# Altium schematic symbol library Custom library.SchLib: 52 symbols
Pins are listed as number, name and electrical type; pins without a type are passive.

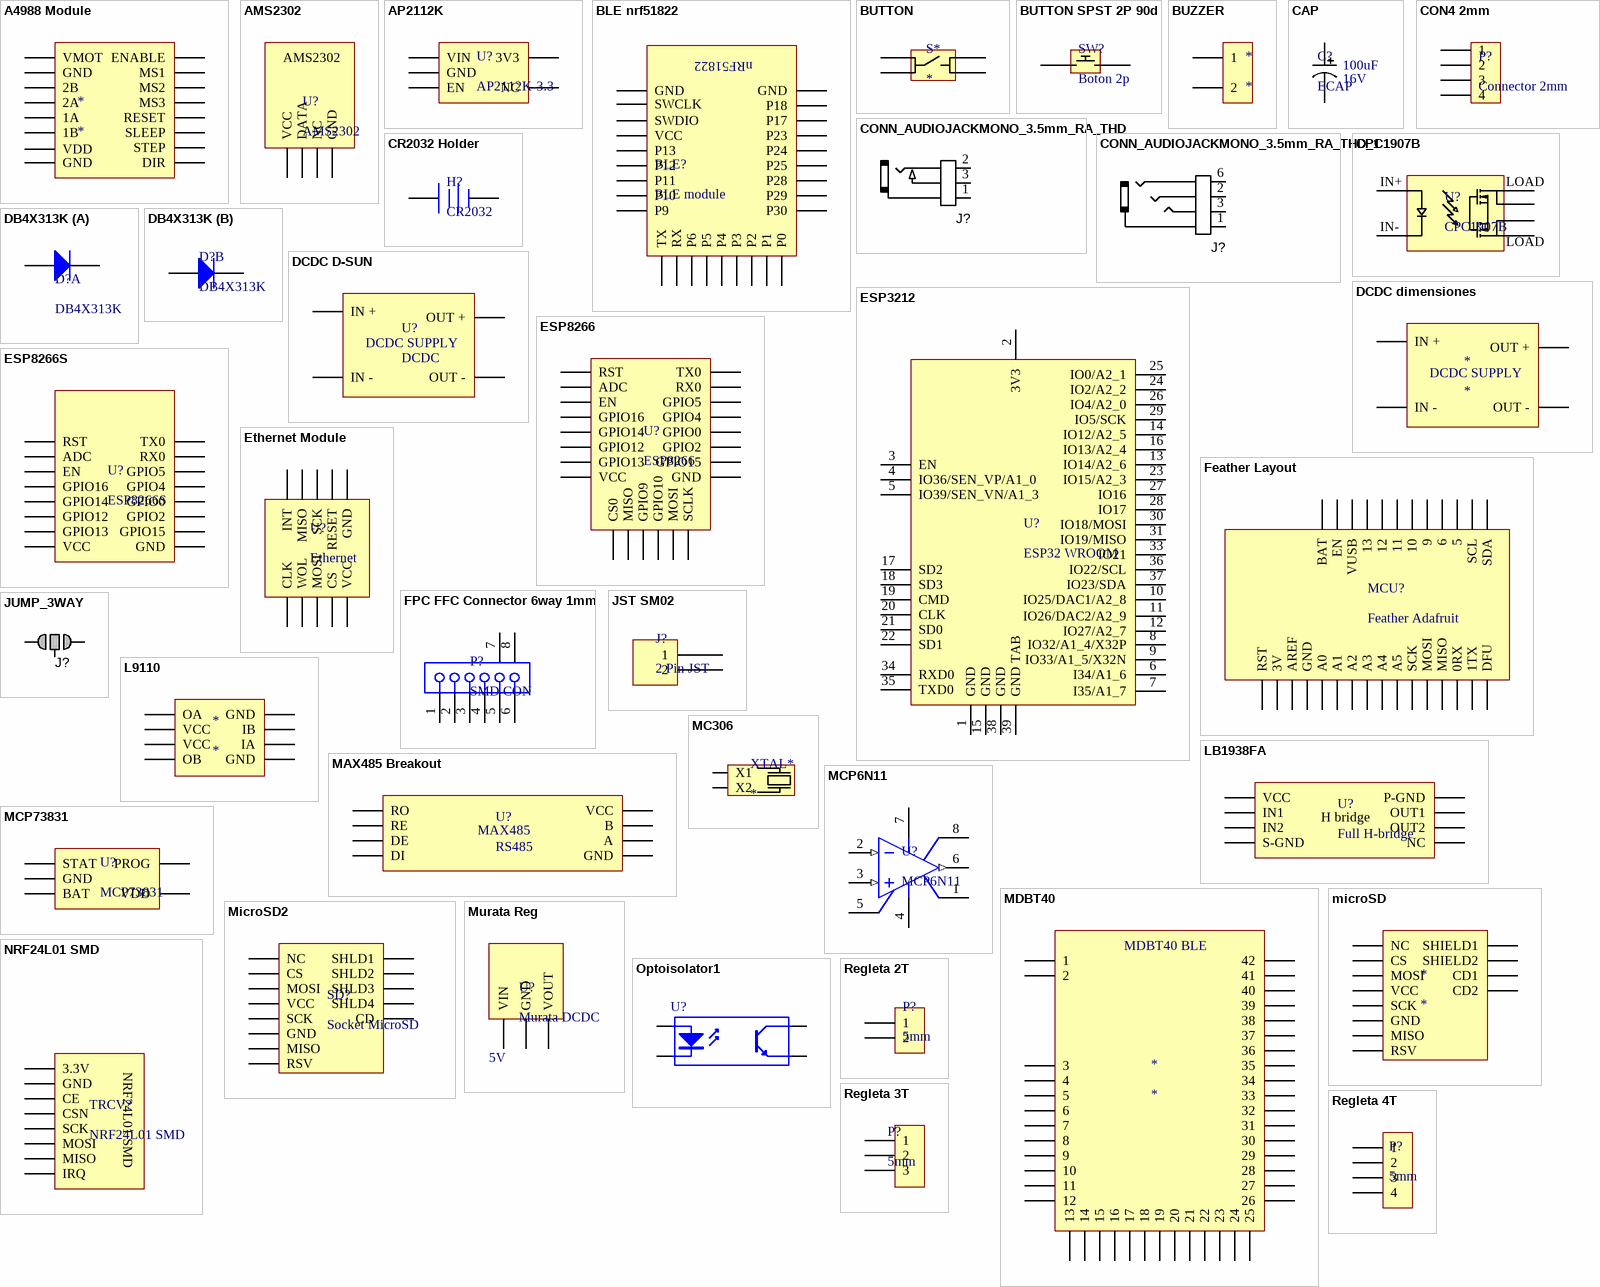
[diagram p0: symbols A4988 Module to Regleta 4T]

## A4988 Module
designator *
footprint A4988 Stepper Driver Module (Stepper Driver)
pins: 1 VMOT, 2 GND, 3 2B, 4 2A, 5 1A, 6 1B, 7 VDD, 8 GND, 9 ENABLE, 10 MS1, 11 MS2, 12 MS3, 13 RESET, 14 SLEEP, 15 STEP, 16 DIR

## AMS2302
designator U?
Temperature and humidity sensor
footprint AMS2302 (DHT22 Module)
pins: 1 VCC, 2 DATA, 3 NC, 4 GND

## AP2112K
designator U?, comment AP2112K-3.3
3V3 LDO Regulator
footprint DBV005 (SOT-23/SC-74A; 5 Leads; Body 3 x 3 mm, inc. leads (LxW max))
pins: 1 VIN, 2 GND, 3 EN, 4 NC, 5 3V3

## BLE nrf51822
designator BLE?, comment BLE module
BLE nRF51822
footprint BLE nrf51822 (modulo BLE)
pins: 1 GND, 2 SWCLK, 3 SWDIO, 4 VCC, 5 P13, 6 P12, 7 P11, 8 P10, 9 P9, 10 TX, 11 RX, 12 P6, 13 P5, 14 P4, 15 P3, 16 P2, 17 P1, 18 P0, 19 P30, 20 P29, 21 P28, 22 P25, 23 P24, 24 P23, 25 P17, 26 P18, 27 GND
text: nRF51822

## BUTTON
designator S*
footprint BUTTON
footprint BUTTON SMD MICRO
pins: 0, 1, 2, 3

## BUTTON SPST 2P 90d
designator SW?, comment Boton 2p
footprint BUTTON SPST 90 (Boton 4.3mm 90 degrees)
footprint BUTTON SPST TH (Boton 4.3mm straight)
footprint BUTTON SPST 90 SMD (Boton 4.3mm 90 degrees no holes)
footprint BUTTON SPST SMD (Boton 4.3mm straight)
pins: 0, 1

## BUZZER
designator *
footprint BUZZER 12mm (Buzzer 5v)
footprint BUZZER 9mm (Buzzer 5v)
pins: 1, 2

## CAP
designator C?, comment ECAP  Capacitance: 100uF  Votage: 16V
Condensador electrolitico standart
footprint CAP6522 (Standart electrolitic capasitor)
footprint CAP 4x8 (ECAP P2)
footprint CAP 5x11 (ECAP P2)
footprint CAP 8x12 (ECAP P3)
footprint CAP SIZE D8
pins: 1, 2

## CON4 2mm
designator P?, comment Connector 2mm
footprint CON4 2mm (Conector 2mm 4p)
footprint JST PUD 2mm 4p (Connector)
pins: 1, 2, 3, 4

## CONN_AUDIOJACKMONO_3.5mm_RA_THD
designator J?, comment Mono phone jack  (value not drawn)
3.5mm Audio jack - Mono; Manufacturer 1: CUI Inc; Manufacturer Part Number 1: MJ-3502; Ratings: 1A; 12VDC; SCDType: undef; Material: Plastic, brass, silver; Package / Case: right-angle THD; Supplier 1: Digi-Key; Supplier Part Number 1: CP-3502MJ-ND
footprint CONN_AudioJackMono (CUI MJ-3502 3.5mm audio jack - mono)
footprint CONN_AUDIO_JACK 3.5mm (RS FC68125)
pins: 1 Base, 2 TIP, 3 Middle

## CONN_AUDIOJACKMONO_3.5mm_RA_THD_1
designator J?, comment Stereo phone jack  (value not drawn)
3.5mm Audio jack - Mono; Manufacturer 1: CUI Inc; Manufacturer Part Number 1: MJ-3502; Ratings: 1A; 12VDC; SCDType: undef; Material: Plastic, brass, silver; Package / Case: right-angle THD; Supplier 1: Digi-Key; Supplier Part Number 1: CP-3502MJ-ND
footprint CONN_AUDIO_JACK 3.5mm (RS FC68125)
footprint CONN_AUDIO_JACK 3.5mm smd (generico)
pins: 1 Base, 2, 3, 6

## CPC1907B
designator U?
Solid State Relay
footprint 8PIN POWER SOIC (8-pin Power Soic)
pins: 2 IN+, 3 IN-, 5, 6, 7, 8
text: LOAD

## CR2032 Holder
designator H?, comment CR2032
Coin Cell Holder
footprint BA2032SM (Coin Cell Holder CR2032)
footprint S8411-45R (CR1220 Batery Holder)
pins: 1 +, 2 -

## DB4X313K
designator D?
Dual Rect Diode
footprint SOT143 (SOT144 - Mini4-G4-B)
part A pins: 1 A, 4 K
part B pins: 2 A, 3 K

## DCDC D-SUN
designator U?, comment DCDC
footprint DCDC D-SUN (Regulator)
pins: 1 IN +, 2 IN -, 3 OUT -, 4 OUT +
text: DCDC SUPPLY

## DCDC dimensiones
designator *
footprint DCDC (Regulador ajustable DCDC)
pins: 1 IN +, 2 IN -, 3 OUT +, 4 OUT -
text: DCDC SUPPLY

## ESP3212
designator U?, comment ESP32 WROOM
WiFi SoC
footprint ESP32 WROOM (ESP WROOM32)
pins: 1 GND, 2 3V3, 3 EN, 4 IO36/SEN_VP/A1_0, 5 IO39/SEN_VN/A1_3, 6 I34/A1_6, 7 I35/A1_7, 8 IO32/A1_4/X32P, 9 IO33/A1_5/X32N, 10 IO25/DAC1/A2_8, 11 IO26/DAC2/A2_9, 12 IO27/A2_7, 13 IO14/A2_6, 14 IO12/A2_5, 15 GND, 16 IO13/A2_4, 17 SD2, 18 SD3, 19 CMD, 20 CLK, 21 SD0, 22 SD1, 23 IO15/A2_3, 24 IO2/A2_2, 25 IO0/A2_1, 26 IO4/A2_0, 27 IO16, 28 IO17, 29 IO5/SCK, 30 IO18/MOSI, 31 IO19/MISO, 33 IO21, 34 RXD0, 35 TXD0, 36 IO22/SCL, 37 IO23/SDA, 38 GND, 39 GND TAB

## ESP8266
designator U?
footprint ESP8266 (Modulo wifi Adafruit)
pins: 1 RST, 2 ADC, 3 EN, 4 GPIO16, 5 GPIO14, 6 GPIO12, 7 GPIO13, 8 VCC, 9 CS0, 10 MISO, 11 GPIO9, 12 GPIO10, 13 MOSI, 14 SCLK, 15 GND, 16 GPIO15, 17 GPIO2, 18 GPIO0, 19 GPIO4, 20 GPIO5, 21 RX0, 22 TX0

## ESP8266S
designator U?
ESP12S
footprint ESP8266S (Modulo wifi Adafruit version S)
pins: 1 RST, 2 ADC, 3 EN, 4 GPIO16, 5 GPIO14, 6 GPIO12, 7 GPIO13, 8 VCC, 15 GND, 16 GPIO15, 17 GPIO2, 18 GPIO0, 19 GPIO4, 20 GPIO5, 21 RX0, 22 TX0

## Ethernet Module
designator U?, comment Ethernet
footprint Ethernet Module (Microchip ENC28J60)
pins: 1 CLK, 2 INT, 3 WOL, 4 MISO, 5 MOSI, 6 SCK, 7 CS, 8 RESET, 9 VCC, 10 GND

## Feather Layout
designator MCU?, comment Feather Adafruit
footprint Feather Layout (Feather standart format)
footprint Feather Layout no holes (Feather standart format without holes)
pins: 1 RST, 2 3V, 3 AREF, 4 GND, 5 A0, 6 A1, 7 A2, 8 A3, 9 A4, 10 A5, 11 SCK, 12 MOSI, 13 MISO, 14 0RX, 15 1TX, 16 DFU, 17 SDA, 18 SCL, 19 5, 20 6, 21 9, 22 10, 23 11, 24 12, 25 13, 26 VUSB, 27 EN, 28 BAT

## FPC FFC Connector 6way 1mm
designator P?, comment SMD CON
FPC FFC Connector 1mm 6way
footprint Conector FPC FFC 6w 1mm (Conector chino)
pins: 1, 2, 3, 4, 5, 6, 7 MH1, 8 MH2

## JST SM02
designator J?, comment 2 Pin JST
JST SM02B
footprint JST SM02B-PASS-TB (JST PA Series 2mm pitch, side entry connector)
footprint JST BM02B-PASS-TF (JST PA Series 2mm pitch, top entry connector)
pins: 1, 2

## JUMP_3WAY
designator J?, comment Jumper  (value not drawn)  (no BOM)
SMD jumper
footprint Jump_3Way (SMT Battery jumper pads)
footprint Jump_3Way_Text1 (SMT jumper for fixed or variable)
pins: 1, 2, 3

## L9110
designator *
footprint S-DIP-8 (DIP; 8 Trim Leads; Row Spacing 7.62 mm; Pitch 2.54 mm)
pins: 1 OA, 2 VCC, 3 VCC, 4 OB, 5 GND, 6 IA, 7 IB, 8 GND

## LB1938FA
designator U?, comment Full H-bridge
Full H-bridge low power
footprint MSOP8
pins: 1 VCC, 2 IN1, 3 IN2, 4 S-GND, 5 NC, 6 OUT2, 7 OUT1, 8 P-GND
text: H bridge

## MAX485 Breakout
designator U?, comment RS485
footprint MAX485 PCB (Breakout Board MAX485)
pins: 0 RO, 1 RE, 2 DE, 3 DI, 4 VCC, 5 B, 6 A, 7 GND
text: MAX485

## MC306
designator XTAL*
footprint MC306 (SMD Crystal)
pins: 1 X1, 4 X2

## MCP6N11
designator U?
Op Amp
footprint SOIC8
pins: 1 OS NUL, 2 IN- (in), 3 IN+ (in), 4 V- (power), 5 OS NUL, 6 OUT (out), 7 V+ (power), 8 TAB

## MCP73831
designator U?
Li-ion Battery charger
footprint DBV005 (SOT-23/SC-74A; 5 Leads; Body 3 x 3 mm, inc. leads (LxW max))
pins: 1 STAT, 2 GND, 3 BAT, 4 VDD, 5 PROG

## MDBT40
designator *
footprint BLE MDBT40 (BLE module nrf51822)
pins: 1, 2, 3, 4, 5, 6, 7, 8, 9, 10, 11, 12, 13, 14, 15, 16, 17, 18, 19, 20, 21, 22, 23, 24, 25, 26, 27, 28, 29, 30, 31, 32, 33, 34, 35, 36, 37, 38, 39, 40, 41, 42
text: MDBT40 BLE

## microSD
designator *
footprint MicroSD (Socket MicroSD)
pins: 1 NC, 2 CS, 3 MOSI, 4 VCC, 5 SCK, 6 GND, 7 MISO, 8 RSV, CD1, CD2, GND1 SHIELD1, GND2 SHIELD2

## MicroSD2
designator SD?, comment Socket MicroSD
footprint MICROSD2 (Socket microSD alternativo)
pins: 1 NC, 2 CS, 3 MOSI, 4 VCC, 5 SCK, 6 GND, 7 MISO, 8 RSV, CD, GND0 SHLD4, GND1 SHLD1, GND2 SHLD2, GND3 SHLD3

## Murata Reg
designator U?, comment Murata DCDC  Vout: 5V
footprint Murata reg (3 pin header)
pins: 1 VIN, 2 GND, 3 VOUT

## NRF24L01 SMD
designator TRCV?
footprint NRF24L01 SMD (NRF24L01 Transciever SMD version)
pins: 0 3.3V, 1 GND, 2 CE, 3 CSN, 4 SCK, 5 MOSI, 6 MISO, 7 IRQ

## Optoisolator1
designator U?
4-Pin Phototransistor Optocoupler; Published: 24-Mar-1999; LatestRevisionDate: 04-Mar-2005; LatestRevisionNote: Sch pins 3 & 4 Swapped.; DatasheetVersion: Nov-2003; PackageReference: DIP-4; Publisher: Altium Limited
footprint DIP-4 (DIP; 4 Leads; Row Spacing 7.62 mm; Pitch 2.54 mm)
pins: 1 A "Anode", 2 K "Cathode", 3 E "Emitter", 4 C "Collector"

## Regleta 2T
designator P?, comment 5mm
Regleta standart 2 pines TH
footprint Regleta 2T (Regleta standart de 2 pines)
footprint Regleta 2T - 90 deg (Regleta standart de 2 pines 90 grados extraible)
footprint Regleta 2T - 90 deg v2 (Regleta alternativa de 2 pines 90 grados extraible)
footprint Regleta 2T - 2.54mm (Regleta standart de 2 pines)
footprint Regleta 2T - 3.5mm (Regleta standart de 2 pines)
pins: 1, 2

## Regleta 3T
designator P?, comment 5mm
footprint REGLETA 3T
footprint REGLETA 3T - 90 deg
footprint REGLETA 3T - 90 deg v2
footprint REGLETA 3T - 2.54mm
footprint REGLETA 3T - 3.5mm
pins: 1, 2, 3

## Regleta 4T
designator P?, comment 5mm
footprint REGLETA 4T
footprint REGLETA 4T - 90 deg
footprint REGLETA 4T - 90 deg v2
footprint REGLETA 4T - 2.54mm
pins: 1, 2, 3, 4

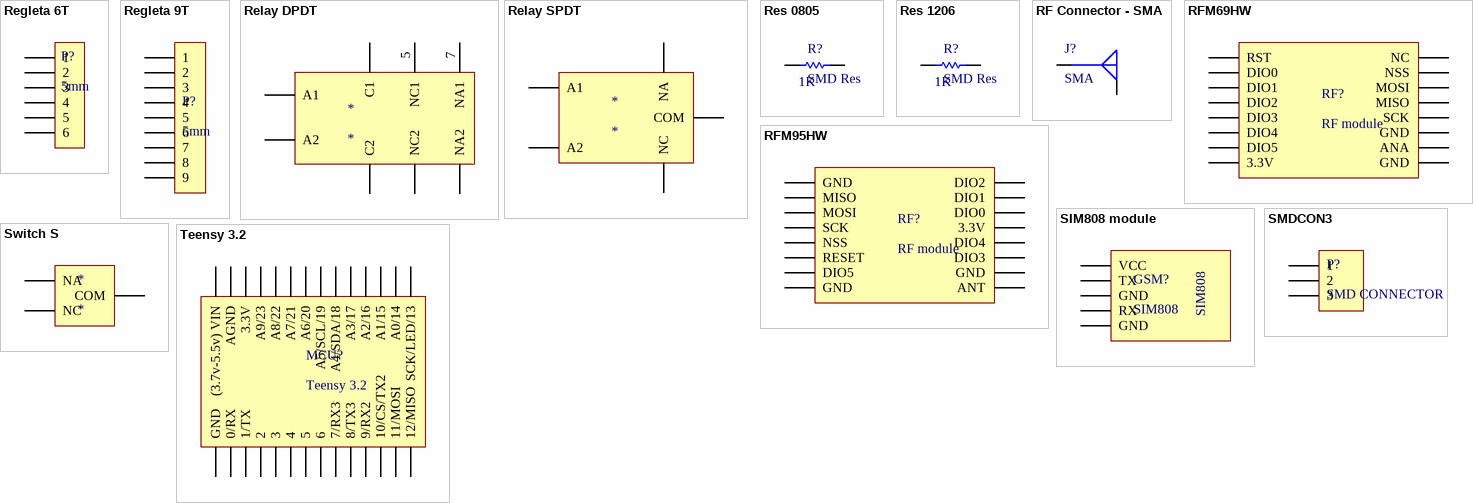
[diagram p1: symbols Regleta 6T to Teensy 3.2]

## Regleta 6T
designator P?, comment 5mm
footprint REGLETA 6T
pins: 1, 2, 3, 4, 5, 6

## Regleta 9T
designator P?, comment 5mm
footprint REGLETA 9T
footprint REGLETA 9T - 90 deg v2
pins: 1, 2, 3, 4, 5, 6, 7, 8, 9

## Relay DPDT
designator *
footprint RELAY_ALT (rele alternativo SPDT)
pins: 0 A1, 1 A2, 2 C2, 3 C1, 4 NC2, 5 NC1, 6 NA2, 7 NA1

## Relay SPDT
designator *
Relay standart SPDT 5v
footprint Relay (Relay SPST)
pins: 0 COM, 1 A2, 2 A1, 3 NC, 4 NA

## Res 0805
designator R?, comment SMD Res  value 1K
SMD Resistor
footprint R0805 (SMD0805 Resistor)
pins: 1, 2

## Res 1206
designator R?, comment SMD Res  value 1K
SMD Resistor
footprint C1206
pins: 1, 2

## RF Connector - SMA
designator J?, comment SMA
footprint MOLEX SD-734120110
pins: G, S

## RFM69HW
designator RF?, comment RF module
footprint RFM69HW (Modulo transceptor SPI)
pins: 1 RST, 2 DIO0, 3 DIO1, 4 DIO2, 5 DIO3, 6 DIO4, 7 DIO5, 8 3.3V, 9 GND, 10 ANA, 11 GND, 12 SCK, 13 MISO, 14 MOSI, 15 NSS, 16 NC

## RFM95HW
designator RF?, comment RF module
footprint RFM95HW (Modulo transceptor SPI)
footprint RFM95HW SMD (Modulo transceptor SPI)
pins: 1 GND, 2 MISO, 3 MOSI, 4 SCK, 5 NSS, 6 RESET, 7 DIO5, 8 GND, 9 ANT, 10 GND, 11 DIO3, 12 DIO4, 13 3.3V, 14 DIO0, 15 DIO1, 16 DIO2

## SIM808 module
designator GSM?, comment SIM808
GSM/GPRS/GPS/BT
footprint SIM808 Module (GSM/GPRS/GPS/BT)
pins: 1 VCC, 2 TX, 3 GND, 4 RX, 5 GND

## SMDCON3
designator P?, comment SMD CONNECTOR
footprint SMDCON3 (Conection pads 3p)
footprint SMDCON3 - S (Conection pads 3p 1.27mm)
pins: 0 1, 1 2, 2 3

## Switch S
designator *
footprint INTERRUPTOR S (Interruptor pequeño)
pins: 0 NA, 1 COM, 2 NC

## Teensy 3.2
designator MCU?
Teensy board
footprint Teensy Layout (Teensy board layout)
pins: 1 GND, 2 0/RX, 3 1/TX, 4 2, 5 3, 6 4, 7 5, 8 6, 9 7/RX3, 10 8/TX3, 11 9/RX2, 12 10/CS/TX2, 13 11/MOSI, 14 12/MISO, 15 SCK/LED/13, 16 A0/14, 17 A1/15, 18 A2/16, 19 A3/17, 20 A4/SDA/18, 21 A5/SCL/19, 22 A6/20, 23 A7/21, 24 A8/22, 25 A9/23, 26 3.3V, 27 AGND, 28 (3.7v-5.5v) VIN